# Altium schematic symbol library pedals-capacitors-film.SCHLIB: 10 symbols
Pins are listed as number, name and electrical type; pins without a type are passive.

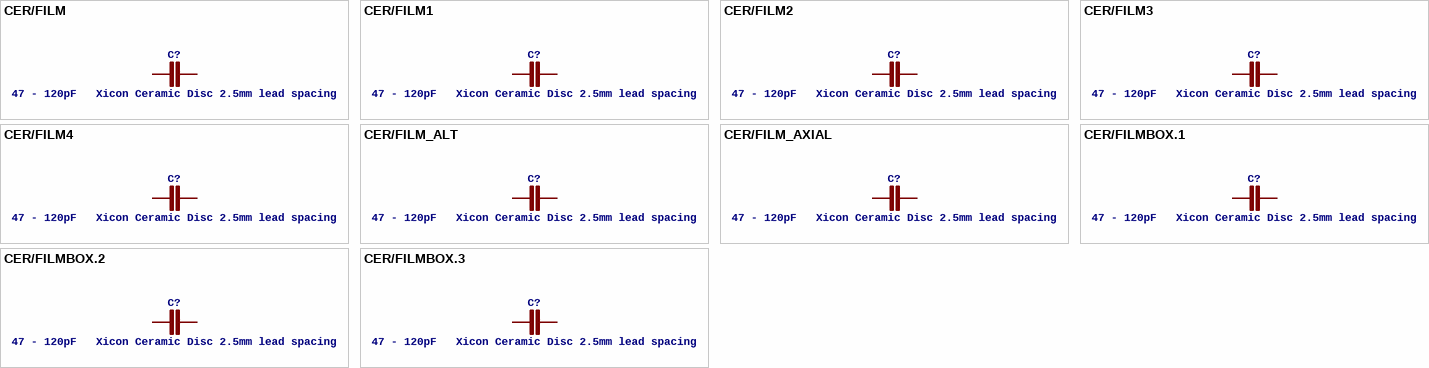
[diagram p0: symbols CER/FILM to CER/FILMBOX.3]

## CER/FILM
designator C?, comment 47 - 120pF   Xicon Ceramic Disc 2.5mm lead spacing
footprint 0805
pins: 1, 2

## CER/FILM1
designator C?, comment 47 - 120pF   Xicon Ceramic Disc 2.5mm lead spacing
footprint 050X030_025
pins: 1, 2

## CER/FILM2
designator C?, comment 47 - 120pF   Xicon Ceramic Disc 2.5mm lead spacing
footprint 050X030_025_2
pins: 1, 2

## CER/FILM3
designator C?, comment 47 - 120pF   Xicon Ceramic Disc 2.5mm lead spacing
footprint 050X030_025_3
pins: 1, 2

## CER/FILM4
designator C?, comment 47 - 120pF   Xicon Ceramic Disc 2.5mm lead spacing
footprint 050X030_025_4
pins: 1, 2

## CER/FILM_ALT
designator C?, comment 47 - 120pF   Xicon Ceramic Disc 2.5mm lead spacing
footprint AXIAL_ALT
pins: 1 3 1, 2 4 2

## CER/FILM_AXIAL
designator C?, comment 47 - 120pF   Xicon Ceramic Disc 2.5mm lead spacing
footprint AXIAL
pins: 1, 2

## CER/FILMBOX.1
designator C?, comment 47 - 120pF   Xicon Ceramic Disc 2.5mm lead spacing
footprint BOX_SMALL
pins: 1, 2

## CER/FILMBOX.2
designator C?, comment 47 - 120pF   Xicon Ceramic Disc 2.5mm lead spacing
footprint BOX_MED
pins: 1, 2

## CER/FILMBOX.3
designator C?, comment 47 - 120pF   Xicon Ceramic Disc 2.5mm lead spacing
footprint BOX_BIG
pins: 1, 2